# Altium schematic symbol library SCH_Miscellaneous.SchLib: 14 symbols
Pins are listed as number, name and electrical type; pins without a type are passive.

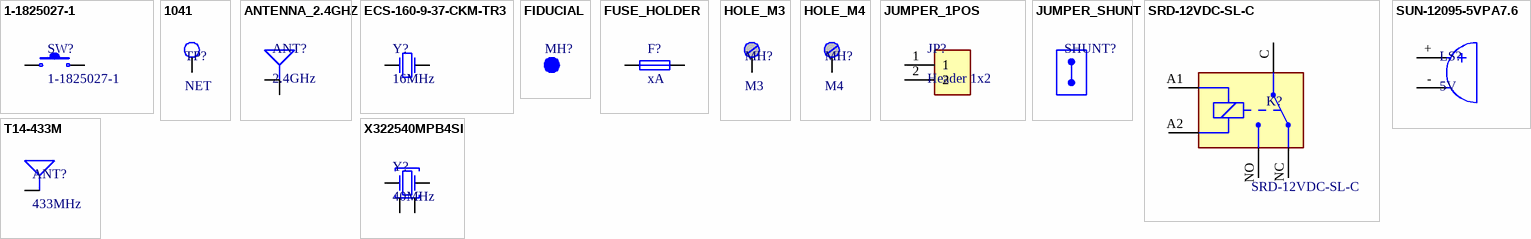
[diagram p0: symbols 1-1825027-1 to X322540MPB4SI]

## 1-1825027-1
designator SW?
SWITCH TACTILE SPST-NO 5.74MM; Manufacturer: TE Connectivity; Actuator Color: Black; Mechanical Life: 100000Cycles; Actuator Material: PBT; Throw Configuration: SPST; Operating Force: 160gf; Illumination Type: Non-Illuminated; Max Voltage Rating (DC): 24V; Contact Current Rating: 50mA; Contact Resistance: 100mR; Switch Function: Off-Mom; Actuator Type: Standard; Switch Travel: 0.25mm; Supplier 1: Digi-Key; Manufacturer Part Number: 1-1825027-1; RoHS: Yes; Category: Pushbutton Switches; Stock 1: 125950; Pricing 1: 1=0,31000, 10=0,29500, 25=0,27960, 100=0,25320, 250=0,23084, 500=0,21456, 1000=0,18304, 3000=0,17795, 5000=0,16778 (USD); Mount: Through Hole; Contact Material: Copper Alloy; Contact Plating: Silver; Min Operating Temperature: -35°C; Max Operating Temperature: 85°C; Termination: PC Pins; Package Quantity: 1000; Packaging: Loose Piece; Orientation: Straight; Max Current Rating: 50mA; Electrical Life: 100000Cycles; Series: FSMRAJ, Alcoswitch; Type: Switch; Illumination Color: Black; Contact Type: 1 maker; Length: 7.11mm; Width: 6mm; Height: 7.3mm; Actuator Length: 5.74mm; Depth: 12.36mm; Radiation Hardening: No; RoHS Compliant: Yes; Lead Free: Lead Free; ELV: Compliant; ComponentLink1URL: https://datasheet.ciiva.com/30068/htmlsfsmra4jh04-0-30068654.pdf?src-supplier=Onlinecomponents.com; ComponentLink1Description: https://datasheet.ciiva.com/30068/htmlsfsmra4jh04-0-30068654.pdf?src-supplier=Onlinecomponents.com; ComponentLink2URL: https://datasheet.ciiva.com/17090/1-1825027-1-17090210.pdf?src-supplier=Allied+Electronics; ComponentLink2Description: https://datasheet.ciiva.com/17090/1-1825027-1-17090210.pdf?src-supplier=Allied+Electronics; ComponentLink3URL: https://datasheet.ciiva.com/26336/701759-da-01-en-tastschalter-fsmra4jh04-26336642.pdf?src-supplier=Conrad; ComponentLink3Description: https://datasheet.ciiva.com/26336/701759-da-01-en-tastschalter-fsmra4jh04-26336642.pdf?src-supplier=Conrad; ComponentLink4URL: https://datasheet.ciiva.com/16395/eng-cs-1308111-1-switches-core-program-catalog-0308-16395995.pdf?src-supplier=Future+Electronics; ComponentLink4Description: https://datasheet.ciiva.com/16395/eng-cs-1308111-1-switches-core-program-catalog-0308-16395995.pdf?src-supplier=Future+Electronics; ComponentLink5URL: https://datasheet.ciiva.com/15184/getdatasheetpartid-154947-15184428.pdf?src-supplier=Verical; ComponentLink5Description: https://datasheet.ciiva.com/15184/getdatasheetpartid-154947-15184428.pdf?src-supplier=Verical; ComponentLink6URL: https://datasheet.ciiva.com/45260/fsmseries-45260030.pdf?src-supplier=Digi-Key; ComponentLink6Description: https://datasheet.ciiva.com/45260/fsmseries-45260030.pdf?src-supplier=Digi-Key; Supplier 2: LCSC; Supplier Part Number 1: 450-1658-ND; Supplier Part Number 2: C266183; Case/Package: PTH-4
footprint SW_FSMRAJ
pins: 1, 2

## 1041
designator TP?, comment NET
TEST POINT LOOP; Manufacturer: Keystone Electronics; Manufacturer Part Number: 1041; Body Material: Brass; Plating: Tin; Hole Diameter: 1.27mm; Supplier 1: Digi-Key; RoHS: Yes; Category: Connectors; Stock 1: 18762; Pricing 1: 1=0,32000, 25=0,26320, 100=0,21480, 250=0,19288, 500=0,18410, 1000=0,15342, 2500=0,14027, 5000=0,13150 (USD); Mount: Through Hole,PCB; Contact Plating: Tin; Material: Brass,Tin; Contact Material: Brass; Package Quantity: 100; Series: -; Packaging: Bulk; Termination: Solder; Height: 0.63inch; RoHS Compliant: Yes; Lead Free: Lead Free; Reach SVHC Compliant: Yes; ComponentLink1URL: https://datasheet.ciiva.com/11836/0900766b800ac5a5-11836153.pdf?src-supplier=RSComponents; ComponentLink1Description: https://datasheet.ciiva.com/11836/0900766b800ac5a5-11836153.pdf?src-supplier=RSComponents; ComponentLink2URL: https://datasheet.ciiva.com/16291/m60-2p59-16291360.pdf?src-supplier=Future+Electronics; ComponentLink2Description: https://datasheet.ciiva.com/16291/m60-2p59-16291360.pdf?src-supplier=Future+Electronics; ComponentLink3URL: https://datasheet.ciiva.com/6946/m60p59-6946720.pdf?src-supplier=Newark; ComponentLink3Description: https://datasheet.ciiva.com/6946/m60p59-6946720.pdf?src-supplier=Newark; ComponentLink4URL: https://datasheet.ciiva.com/2917/1041-2917716.pdf?src-supplier=Digi-Key; ComponentLink4Description: https://datasheet.ciiva.com/2917/1041-2917716.pdf?src-supplier=Digi-Key; ComponentLink5URL: https://datasheet.ciiva.com/16885/70181606-16885226.pdf?src-supplier=Allied+Electronics; ComponentLink5Description: https://datasheet.ciiva.com/16885/70181606-16885226.pdf?src-supplier=Allied+Electronics; Supplier Part Number 1: 36-1041-ND; Case/Package: PTH-1
footprint TP_LOOP
pins: 1

## ANTENNA_2.4GHZ
designator ANT?, comment 2.4GHz  (no BOM)
SMALL SIZE 2.4 GHz PCB ANTENNA; Impedance: 50 Ohm; ComponentLink1Description: Datasheet; ComponentLink1URL: https://www.ti.com/lit/an/swra117d/swra117d.pdf; Category: Antenna; Frequency: 2.4GHz; Dimensions: 15.2 x 5.7 mm
footprint ANTENNA_2.4GHZ
pins: ANT, GND

## ECS-160-9-37-CKM-TR3
designator Y?, comment 16MHz
CRYSTAL 16.0000MHZ 10PPM 9PF SMD-2016; Manufacturer: ECS International; Manufacturer Part Number: ECS-160-9-37-CKM-TR3; Supplier 1: Digi-Key; RoHS: No; Category: Crystal; Stock 1: 30907; Pricing 1: 1=0,42000, 10=0,35400, 50=0,31820, 100=0,28280, 500=0,26866, 1000=0,22624 (USD); Supplier Part Number 1: 50-ECS-160-9-37-CKM-TR3CT-ND; Case/Package: SMD-4
footprint CRYSTAL2016
pins: 1, 3

## FIDUCIAL
designator MH?, comment 1x2mm  (value not drawn)  (no BOM)
FIDUCIAL 1 X 2 MM; Category: Fiducials
footprint FIDUCIAL_1X2

## FUSE_HOLDER
designator F?, comment xA
FUSE HOLDER 5X20MM; Manufacturer: Xucheng Electronics; Manufacturer Part Number: C3131; Supplier 1: LCSC; Category: Fuses; Stock 1: 73120; Pricing 1: 5=0,06130, 50=0,04950, 150=0,04350, 500=0,03850, 2500=0,03680, 5000=0,03560 (USD); Supplier Part Number 1: C3131; Case/Package: PTH-2; ComponentLink1Description: Datasheet; ComponentLink1URL: https://datasheet.lcsc.com/lcsc/1811061209_Xucheng-Elec-C3131_C3131.pdf
footprint FUSE_HOLDER
pins: 1, 2

## HOLE_M3
designator MH?, comment M3  (no BOM)
MOUNTING HOLE M3; Category: Mechanicals
footprint HOLE_M3
pins: 1

## HOLE_M4
designator MH?, comment M4  (no BOM)
MOUNTING HOLE M4; Category: Mechanicals
footprint HOLE_M4
pins: 1

## JUMPER_1POS
designator JP?, comment Header 1x2
JUMPER 2PIN 1POS 2.54MM; Manufacturer: XFCN; Manufacturer Part Number: PZ254V-11-02P; Stock 1: 111950; Pricing 1: 50=0,01260, 500=0,01010, 2000=0,00870, 4000=0,00780, 24000=0,00710, 50000=0,00670 (USD); Category: Jumper; Supplier 1: LCSC; Supplier Part Number 1: C492401; Case/Package: PTH-2
footprint HEADER_1X2
pins: 1, 2

## JUMPER_SHUNT
designator SHUNT?
JUMPER SHUNT; Manufacturer: TE Connectivity AMP; Manufacturer Part Number: 881545-2; Supplier 1: Digi-Key; RoHS: Yes; Category: Jumper; Stock 1: 273858; Pricing 1: 1=0,32000, 10=0,27600, 25=0,24280, 50=0,22320, 100=0,21440, 250=0,19248, 500=0,18374, 1000=0,15312, 2500=0,14000 (USD); RoHS Compliant: Yes; ComponentLink1URL: https://www.te.com/commerce/DocumentDelivery/DDEController?Action=srchrtrv&amp;DocNm=881545&amp;DocType=Customer+Drawing&amp;DocLang=English&src-supplier=Digi-Key; ComponentLink1Description: https://www.te.com/commerce/DocumentDelivery/DDEController?Action=srchrtrv&amp;DocNm=881545&amp;DocType=Customer+Drawing&amp;DocLang=English&src-supplier=Digi-Key; Supplier Part Number 1: A26242-ND
footprint SHUNT

## SRD-12VDC-SL-C
designator K?, comment Manufacturer Part Number: SRD-12VDC-SL-C  (hidden comment: 12VDC)
RELAY 12V 15A SPDT; Manufacturer: Ningbo Forward Relay; Supplier 1: LCSC; RoHS: Yes; Category: Relays; Stock 1: 106554; Pricing 1: 1=0,35480, 10=0,28160, 30=0,24660, 100=0,21480, 500=0,20690, 1000=0,20050 (USD); Supplier Part Number 1: C30431; Maximum Switching Current: 15A; ComponentLink1Description: Datasheet; ComponentLink1URL: https://datasheet.lcsc.com/lcsc/1811111110_Ningbo-Songle-Relay-SRD-12VDC-SL-C_C30431.pdf; Coil Voltage: 12VDC; Case/Package: PTH-5
footprint RELAY_1C
pins: A1, A2, C, NC, NO

## SUN-12095-5VPA7.6
designator LS?, comment 5V
BUZZER MAGNETIC 5V 12MM PTH; Manufacturer: S&S; Manufacturer Part Number: SUN-12095-5VPA7.6; Oscillator Circuit: Active (driven circuit included); Frequency: 2700Hz; Pitch: 7.6mm; Supplier 1: LCSC; RoHS: Yes; Category: Audio Components; Stock 1: 20790; Pricing 1: 5=0,17770, 50=0,14110, 150=0,12330, 500=0,09670, 2500=0,09270, 5000=0,09040 (USD); Supplier Part Number 1: C360615; Height: 9.8mm; Diameter: 12mm; Rated  Voltage: 5V; ComponentLink1Description: Datasheet; ComponentLink1URL: https://datasheet.lcsc.com/lcsc/2108191230_S-S-SUN-12095-5VPA7-6_C360615.pdf; Case/Package: PTH-2
footprint BUZZER12076
pins: +, -

## T14-433M
designator ANT?, comment 433MHz
433 MHz SPRING ANTENNA; Manufacturer: Dreamlnk; Manufacturer Part Number: T14-433M; Supplier 1: LCSC; Stock 1: 4400; Pricing 1: 5=0,16940, 50=0,13870, 150=0,12550, 500=0,10910, 2500=0,10180, 5000=0,09740 (USD); Supplier Part Number 1: C381188; Category: Antenna; Case/Package: PTH-1
footprint T14-433M
pins: ANT

## X322540MPB4SI
designator Y?, comment 40MHz
CRYSTAL 40MHZ 10PPM 15PF SMD-3225; Manufacturer: YXC; Manufacturer Part Number: X322540MPB4SI; Supplier 1: LCSC; RoHS: Yes; Stock 1: 151700; Pricing 1: 5=0,08940, 50=0,07350, 150=0,06550, 500=0,05950, 3000=0,05050, 6000=0,04810 (USD); Supplier Part Number 1: C9010; Category: Crystal; Case/Package: SMD-4
footprint CRYSTAL3225
pins: 1, 2, 3, 4